# EAGLE library part TLP627-2 (library Tari)
High-voltage 2-channel optoisolator 300V collector-emitter breakdown voltage, two independent channels in one package. Low (0.3V) emitter-collector breakdown, so usually needs reverse protection.
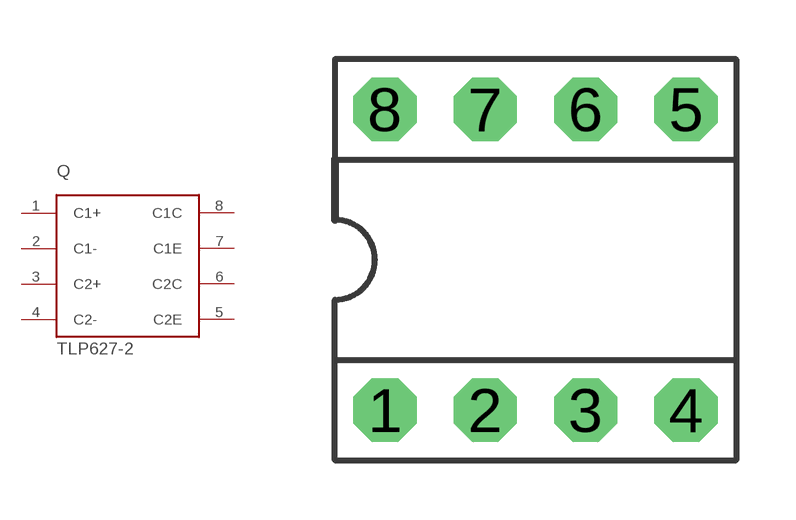
[diagram p0: symbol with the pads of DIL-8; footprint DIL-8]

Designator prefix Q

## TLP627-2  [DIL-8]
1  C1+
2  C1-
3  C2+
4  C2-
5  C2E
6  C2C
7  C1E
8  C1C

## Footprint DIL-8 (pad centres in mm)
drill 0.813 pad 1.6 octagon: 1 -3.81,-3.81; 2 -1.27,-3.81; 3 1.27,-3.81; 4 3.81,-3.81; 5 3.81,3.81; 6 1.27,3.81; 7 -1.27,3.81; 8 -3.81,3.81